# Altium integrated library 6N137.IntLib: 1 symbol
Pins are listed as number, name and electrical type; pins without a type are passive.

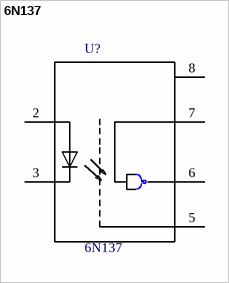
[diagram p0: symbol 6N137]

## 6N137
designator U?
High CMR, High Speed TTL Compatible Optocouplers; MF: Everlight Electronics; Digi-Key_Part_Number: 751-1262-5-ND; SnapEDA_Link: https://www.snapeda.com/parts/6N137/Everlight%20Electronics%20Co%20Ltd/view-part/?ref=snap; MP: 6N137; Digi-Key_Purchase_URL: https://www.digikey.ec/product-detail/en/vishay-semiconductor-opto-division/6N137/751-1262-5-ND/1731495?utm_source=snapeda&utm_medium=aggregator&utm_campaign=symbol; Package: DIP-8 Broadcom; Value: *
footprint *DIP762W50P254L977H451Q8
pins: 2 A, 3 C, 5 GND (power), 6 VO, 7 VE, 8 VCC (power)